# Altium schematic symbol library 2.4   - Atmel系列单片机.SchLib: 4 symbols
Pins are listed as number, name and electrical type; pins without a type are passive.

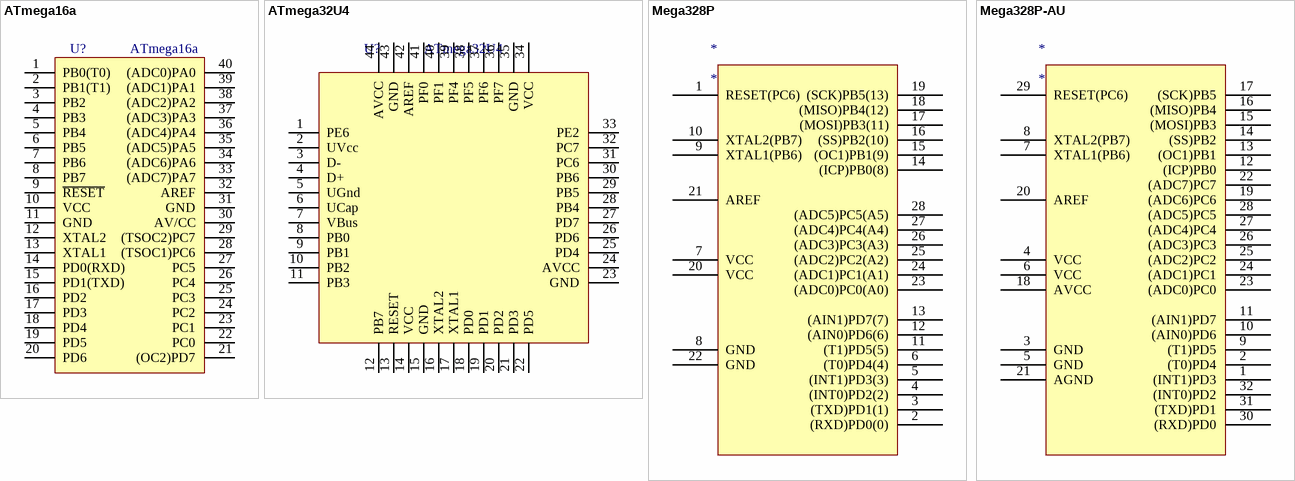
[diagram p0: symbols ATmega16a to Mega328P-AU]

## ATmega16a
designator U?
AVR单片机; 版权归属: 源创客; BOM名称: AVR单片机; 学习资源: www.ooocke.com
footprint DIP40-600 (52*15.2*4mm(长宽高))
footprint DIP40-600_MH (带底座 52*15.2*4mm(长宽高))
pins: 1 PB0(T0), 2 PB1(T1), 3 PB2, 4 PB3, 5 PB4, 6 PB5, 7 PB6, 8 PB7, 9 ~{RESET}, 10 VCC, 11 GND, 12 XTAL2, 13 XTAL1, 14 PD0(RXD), 15 PD1(TXD), 16 PD2, 17 PD3, 18 PD4, 19 PD5, 20 PD6, 21 (OC2)PD7, 22 PC0, 23 PC1, 24 PC2, 25 PC3, 26 PC4, 27 PC5, 28 (TSOC1)PC6, 29 (TSOC2)PC7, 30 AV/CC, 31 GND, 32 AREF, 33 (ADC7)PA7, 34 (ADC6)PA6, 35 (ADC5)PA5, 36 (ADC4)PA4, 37 (ADC3)PA3, 38 (ADC2)PA2, 39 (ADC1)PA1, 40 (ADC0)PA0

## ATmega32U4
designator U?
AVR单片机; 版权归属: 源创客; BOM名称: AVR单片机; 学习资源: www.ooocke.com
footprint TQFP44 10x10_L (44脚，体宽：10x10mm, 脚距：0.8mm)
footprint TQFP44 10x10_M (44脚，体宽：10x10mm, 脚距：0.8mm)
footprint TQFP44 10x10_N (44脚，体宽：10x10mm, 脚距：0.8mm)
pins: 1 PE6, 2 UVcc, 3 D-, 4 D+, 5 UGnd, 6 UCap, 7 VBus, 8 PB0, 9 PB1, 10 PB2, 11 PB3, 12 PB7, 13 RESET, 14 VCC, 15 GND, 16 XTAL2, 17 XTAL1, 18 PD0, 19 PD1, 20 PD2, 21 PD3, 22 PD5, 23 GND, 24 AVCC, 25 PD4, 26 PD6, 27 PD7, 28 PB4, 29 PB5, 30 PB6, 31 PC6, 32 PC7, 33 PE2, 34 VCC, 35 GND, 36 PF7, 37 PF6, 38 PF5, 39 PF4, 40 PF1, 41 PF0, 42 AREF, 43 GND, 44 AVCC

## Mega328P
designator *
footprint DIP28-400 (36*10.16*3.8(长宽高）)
pins: 1 RESET(PC6), 2 (RXD)PD0(0), 3 (TXD)PD1(1), 4 (INT0)PD2(2), 5 (INT1)PD3(3), 6 (T0)PD4(4), 7 VCC, 8 GND, 9 XTAL1(PB6), 10 XTAL2(PB7), 11 (T1)PD5(5), 12 (AIN0)PD6(6), 13 (AIN1)PD7(7), 14 (ICP)PB0(8), 15 (OC1)PB1(9), 16 (SS)PB2(10), 17 (MOSI)PB3(11), 18 (MISO)PB4(12), 19 (SCK)PB5(13), 20 VCC, 21 AREF, 22 GND, 23 (ADC0)PC0(A0), 24 (ADC1)PC1(A1), 25 (ADC2)PC2(A2), 26 (ADC3)PC3(A3), 27 (ADC4)PC4(A4), 28 (ADC5)PC5(A5)

## Mega328P-AU
designator *
footprint TQFP32 7x7_N (32脚，体宽：7x7mm, 脚距：0.8mm)
pins: 1 (INT1)PD3, 2 (T0)PD4, 3 GND, 4 VCC, 5 GND, 6 VCC, 7 XTAL1(PB6), 8 XTAL2(PB7), 9 (T1)PD5, 10 (AIN0)PD6, 11 (AIN1)PD7, 12 (ICP)PB0, 13 (OC1)PB1, 14 (SS)PB2, 15 (MOSI)PB3, 16 (MISO)PB4, 17 (SCK)PB5, 18 AVCC, 19 (ADC6)PC6, 20 AREF, 21 AGND, 22 (ADC7)PC7, 23 (ADC0)PC0, 24 (ADC1)PC1, 25 (ADC2)PC2, 26 (ADC3)PC3, 27 (ADC4)PC4, 28 (ADC5)PC5, 29 RESET(PC6), 30 (RXD)PD0, 31 (TXD)PD1, 32 (INT0)PD2